# Altium schematic symbol library Common_Modules.SchLib: 14 symbols
Pins are listed as number, name and electrical type; pins without a type are passive.

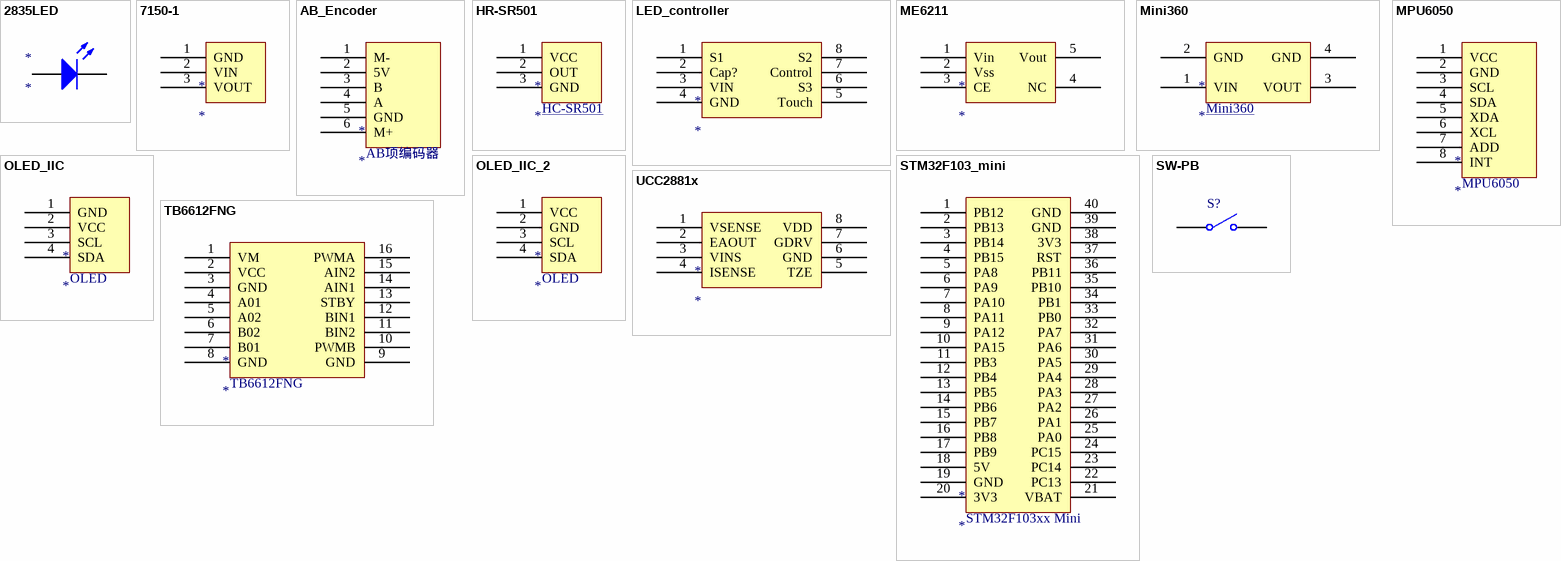
[diagram p0: symbols 2835LED to UCC2881x]

## 2835LED
designator *
footprint 2835LED
pins: 1 A, 2 K

## 7150-1
designator *
footprint SOT-89
pins: 1 GND, 2 VIN, 3 VOUT

## AB_Encoder
designator *
带编码器 TT马达
footprint AB_Encoder
pins: 1 M-, 2 5V, 3 B, 4 A, 5 GND, 6 M+
text: AB项编码器

## HR-SR501
designator *
人体红外感应模块
footprint HR-SR501 (人体红外感应模块)
pins: 1 VCC, 2 OUT, 3 GND
text: HC-SR501

## LED_controller
designator *
footprint SOP8
pins: 1 S1, 2 Cap?, 3 VIN, 4 GND, 5 Touch, 6 S3, 7 Control, 8 S2

## ME6211
designator *
SOT23-5
footprint ME6211 (SOT23-5)
pins: 1 Vin, 2 Vss, 3 CE, 4 NC, 5 Vout

## Mini360
designator *
超小体积DC-DC同步整流降压模块
footprint Mini360
pins: 1 VIN, 2 GND, 3 VOUT, 4 GND

## MPU6050
designator *
GY-521
footprint MPU6050 (GY-521)
pins: 1 VCC, 2 GND, 3 SCL, 4 SDA, 5 XDA, 6 XCL, 7 ADD, 8 INT

## OLED_IIC
designator *
彩色屏或较新版
footprint OLED (0.96 IIC)
pins: 1 GND, 2 VCC, 3 SCL, 4 SDA
text: OLED

## OLED_IIC_2
designator *
单色版
footprint HDR1X4
pins: 1 VCC, 2 GND, 3 SCL, 4 SDA
text: OLED

## STM32F103_mini
designator *
育松家的最小系统板
footprint STM32F103_mini
pins: 1 PB12, 2 PB13, 3 PB14, 4 PB15, 5 PA8, 6 PA9, 7 PA10, 8 PA11, 9 PA12, 10 PA15, 11 PB3, 12 PB4, 13 PB5, 14 PB6, 15 PB7, 16 PB8, 17 PB9, 18 5V, 19 GND, 20 3V3, 21 VBAT, 22 PC13, 23 PC14, 24 PC15, 25 PA0, 26 PA1, 27 PA2, 28 PA3, 29 PA4, 30 PA5, 31 PA6, 32 PA7, 33 PB0, 34 PB1, 35 PB10, 36 PB11, 37 RST, 38 3V3, 39 GND, 40 GND
text: STM32F103xx Mini

## SW-PB
designator S?
船型开关; Published: 24-Mar-1999; LatestRevisionDate: 17-Jul-2002; LatestRevisionNote: Re-released for DXP Platform.; PackageReference: SPST-2; Publisher: Altium Limited; PackageDescription: Switch; 2 Leads
footprint SW-PB (船型开关)
pins: 1 COMMON, 2 NO

## TB6612FNG
designator *
HW-166
footprint TB6612FNG (HW-166)
pins: 1 VM, 2 VCC, 3 GND, 4 A01, 5 A02, 6 B02, 7 B01, 8 GND, 9 GND, 10 PWMB, 11 BIN2, 12 BIN1, 13 STBY, 14 AIN1, 15 AIN2, 16 PWMA

## UCC2881x
designator *
footprint SOP8
pins: 1 VSENSE, 2 EAOUT, 3 VINS, 4 ISENSE, 5 TZE, 6 GND, 7 GDRV, 8 VDD